# Altium schematic symbol library SCH - PASSIVES - RESISTOR.SCHLIB: 2 symbols
Pins are listed as number, name and electrical type; pins without a type are passive.

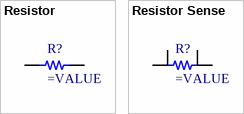
[diagram p0: symbols Resistor to Resistor Sense]

## Resistor
designator R?
SMT Resistor
pins: 1, 2

## Resistor Sense
designator R?
SMT Resistor
pins: 1, 1A, 2, 2A